# EAGLE library part RHD2164 (library RHD2000)
Intan Technologies RHD2164 chip
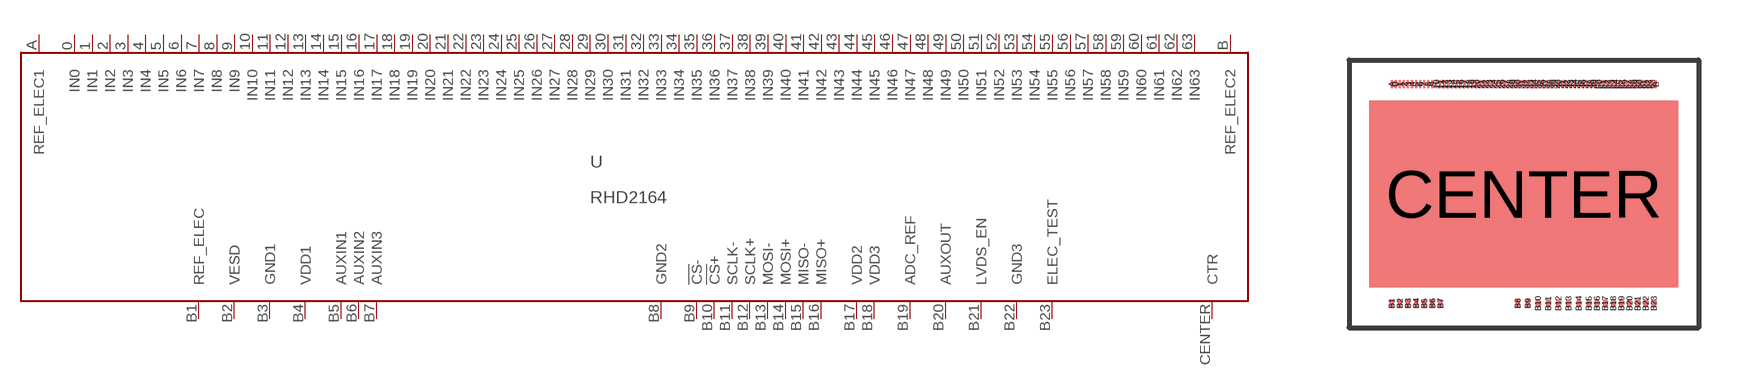
[diagram p5: symbol with the pads of RHD2164_COB; footprint RHD2164_COB]

Designator prefix U

## RHD2164_COB  [RHD2164_COB]
0  IN0  in
1  IN1  in
2  IN2  in
3  IN3  in
4  IN4  in
5  IN5  in
6  IN6  in
7  IN7  in
8  IN8  in
9  IN9  in
10  IN10  in
11  IN11  in
12  IN12  in
13  IN13  in
14  IN14  in
15  IN15  in
16  IN16  in
17  IN17  in
18  IN18  in
19  IN19  in
20  IN20  in
21  IN21  in
22  IN22  in
23  IN23  in
24  IN24  in
25  IN25  in
26  IN26  in
27  IN27  in
28  IN28  in
29  IN29  in
30  IN30  in
31  IN31  in
32  IN32  in
33  IN33  in
34  IN34  in
35  IN35  in
36  IN36  in
37  IN37  in
38  IN38  in
39  IN39  in
40  IN40  in
41  IN41  in
42  IN42  in
43  IN43  in
44  IN44  in
45  IN45  in
46  IN46  in
47  IN47  in
48  IN48  in
49  IN49  in
50  IN50  in
51  IN51  in
52  IN52  in
53  IN53  in
54  IN54  in
55  IN55  in
56  IN56  in
57  IN57  in
58  IN58  in
59  IN59  in
60  IN60  in
61  IN61  in
62  IN62  in
63  IN63  in
A  REF_ELEC1  in
B  REF_ELEC2  in
B1  REF_ELEC  in
B2  VESD  pwr
B3  GND1  pwr
B4  VDD1  pwr
B5  AUXIN1  in
B6  AUXIN2  in
B7  AUXIN3  in
B8  GND2  pwr
B9  !CS!-  in
B10  !CS!+  in
B11  SCLK-  in
B12  SCLK+  in
B13  MOSI-  in
B14  MOSI+  in
B15  MISO-  out
B16  MISO+  out
B17  VDD2  pwr
B18  VDD3  pwr
B19  ADC_REF  pas
B20  AUXOUT  hiz
B21  LVDS_EN  in
B22  GND3  pwr
B23  ELEC_TEST  in
CENTER  CTR  pwr

## Footprint RHD2164_COB (pad centres in mm)
smd 0.051 x 0.203: 0 -3.2,2.743; 1 -3.099,2.743; 2 -2.997,2.743; 3 -2.896,2.743; 4 -2.794,2.743; 5 -2.692,2.743; 6 -2.591,2.743; 7 -2.489,2.743; 8 -2.388,2.743; 9 -2.286,2.743; 10 -2.184,2.743; 11 -2.083,2.743; 12 -1.981,2.743; 13 -1.88,2.743; 14 -1.778,2.743; 15 -1.676,2.743; 16 -1.575,2.743; 17 -1.473,2.743; 18 -1.372,2.743; 19 -1.27,2.743; 20 -1.168,2.743; 21 -1.067,2.743; 22 -0.965,2.743; 23 -0.864,2.743; 24 -0.762,2.743; 25 -0.66,2.743; 26 -0.559,2.743; 27 -0.457,2.743; 28 -0.356,2.743; 29 -0.254,2.743; 30 -0.152,2.743; 31 -0.051,2.743; 32 0.051,2.743; 33 0.152,2.743; 34 0.254,2.743; 35 0.356,2.743; 36 0.457,2.743; 37 0.559,2.743; 38 0.66,2.743; 39 0.762,2.743; 40 0.864,2.743; 41 0.965,2.743; 42 1.067,2.743; 43 1.168,2.743; 44 1.27,2.743; 45 1.372,2.743; 46 1.473,2.743; 47 1.575,2.743; 48 1.676,2.743; 49 1.778,2.743; 50 1.88,2.743; 51 1.981,2.743; 52 2.083,2.743; 53 2.184,2.743; 54 2.286,2.743; 55 2.388,2.743; 56 2.489,2.743; 57 2.591,2.743; 58 2.692,2.743; 59 2.794,2.743; 60 2.896,2.743; 61 2.997,2.743; 62 3.099,2.743; 63 3.2,2.743; A -3.302,2.743; B 3.302,2.743
smd 0.102 x 0.203: B1 -3.302,-2.743; B2 -3.099,-2.743; B3 -2.896,-2.743; B4 -2.692,-2.743; B5 -2.489,-2.743; B6 -2.286,-2.743; B7 -2.083,-2.743; B8 -0.152,-2.743; B9 0.102,-2.743; B10 0.356,-2.743; B11 0.61,-2.743; B12 0.864,-2.743; B13 1.118,-2.743; B14 1.372,-2.743; B15 1.626,-2.743; B16 1.829,-2.743; B17 2.032,-2.743; B18 2.235,-2.743; B19 2.438,-2.743; B20 2.642,-2.743; B21 2.845,-2.743; B22 3.048,-2.743; B23 3.251,-2.743
smd 7.722 x 4.674: CENTER 0,0